# Altium schematic symbol library Audio Jack.SchLib: 1 symbol
Pins are listed as number, name and electrical type; pins without a type are passive.

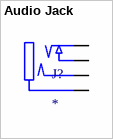
[diagram p0: symbol Audio Jack]

## Audio Jack
designator J?
pins: 1, 2, 3, 4